# EAGLE library part ATTINY25/45/85 (library airball)
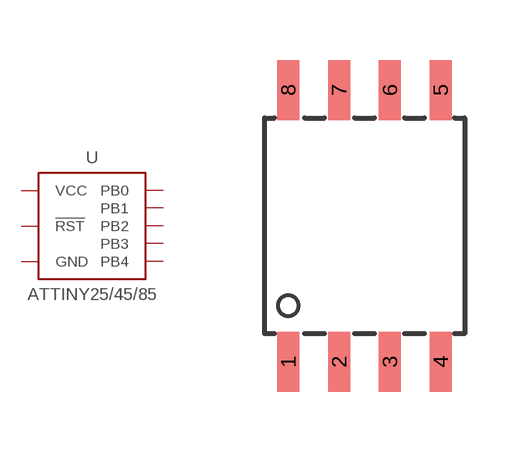
[diagram p13: symbol with the pads of SOIC8-5.4; footprint SOIC8-5.4]

Designator prefix U

## ATTINY25/45/85  [SOIC8-5.4]
1  !RST  in
2  PB3
3  PB4
4  GND  pwr
5  PB0
6  PB1
7  PB2
8  VCC  pwr

## Footprint SOIC8-5.4 (pad centres in mm)
smd 0.55 x 1.5: 1 -1.905,-3.4; 2 -0.635,-3.4; 3 0.635,-3.4; 4 1.905,-3.4; 5 1.905,3.4; 6 0.635,3.4; 7 -0.635,3.4; 8 -1.905,3.4